# Altium schematic symbol library Components.SchLib: 31 symbols
Pins are listed as number, name and electrical type; pins without a type are passive.

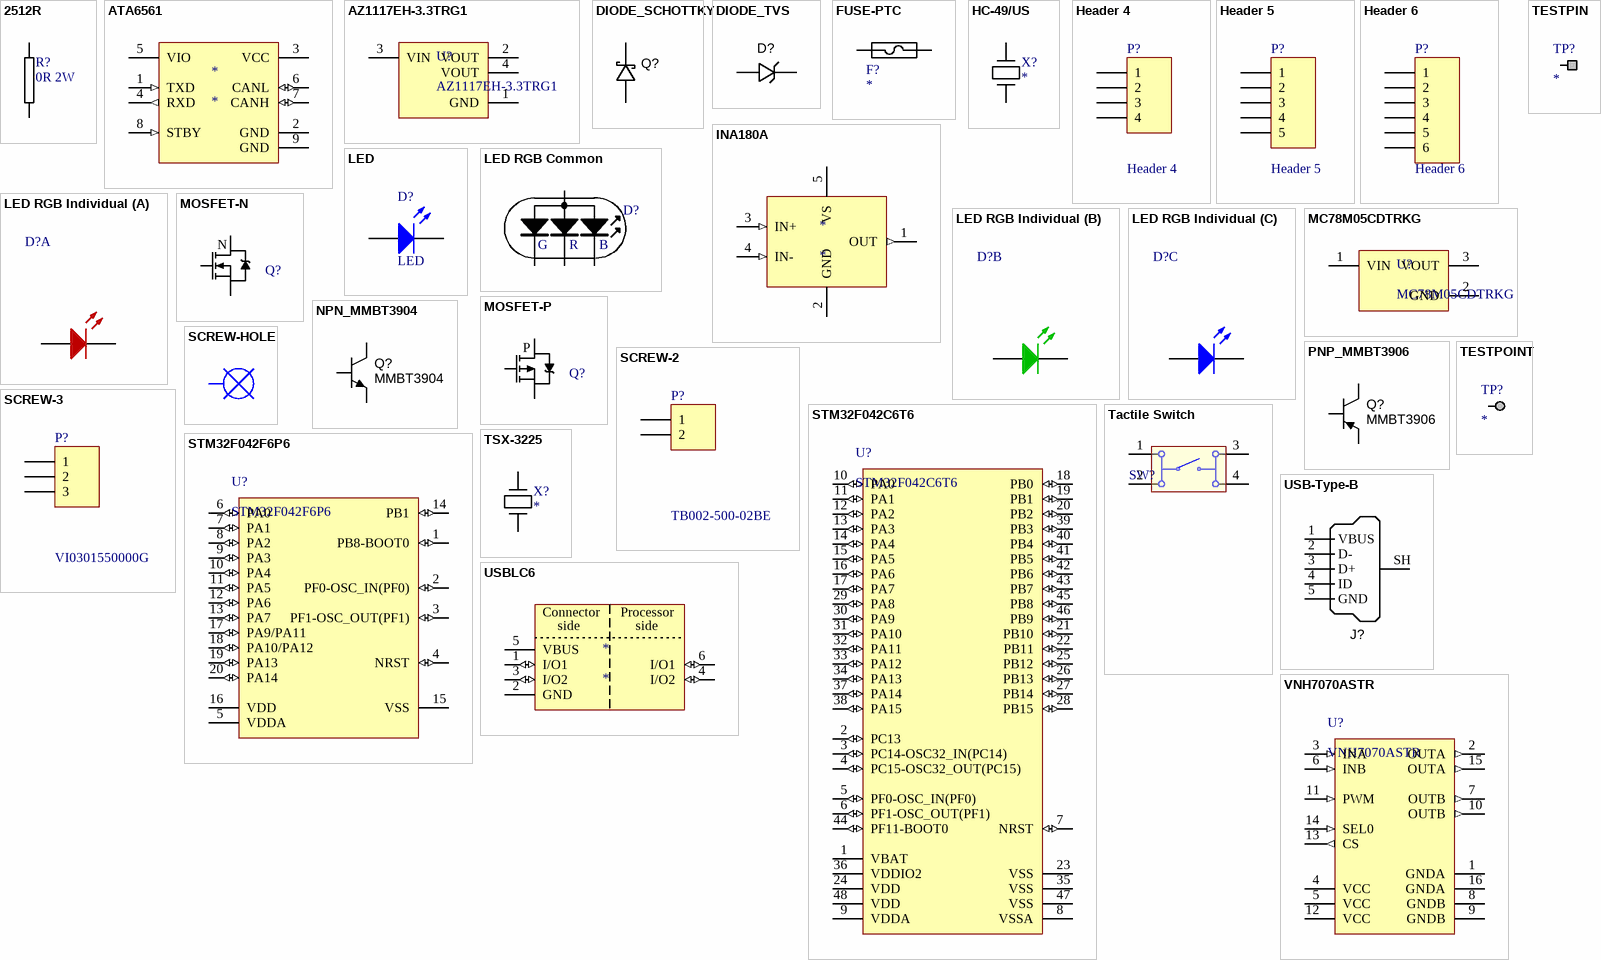
[diagram p0: symbols 2512R to VNH7070ASTR]

## 2512R
designator R?, comment 0R 2W
POWER RESISTOR 2512
footprint 2512R-GENERIC
pins: 1, 2

## ATA6561
designator *
High-Speed CAN Transceiver with Standby Mode  CAN FD Ready
footprint VDFN8 (8-Lead Very Thin Plastic Dual Flat, No Lead Package (Q8B) - 3x3 mm Body [VDFN] With  2.40x1.60 mm Exposed Pad and Stepped Wettable Flanks)
footprint SOIC8 (8-Pin Plastic Narrow Body Small Outline Integrated Circuit 1.27 mm Pitch, IPC Low Density)
pins: 1 TXD (in), 2 GND (power), 3 VCC (power), 4 RXD (out), 5 VIO (power), 6 CANL (io), 7 CANH (io), 8 STBY (in), 9 GND (power)

## AZ1117EH-3.3TRG1
designator U?
3.3V, 1A, LDO Regulator, 3-Pin SOT-223
footprint SOT-223 (SOT223, 4-Leads, Body 6.5x3.5mm, Pitch 2.3mm, Lead Span 7mm, IPC Medium Density)
pins: 1 GND (power), 2 VOUT (power), 3 VIN (power), 4 VOUT (power)

## DIODE_SCHOTTKY
designator Q?  (value not drawn)
Diode Schottky; Diode Type: Schottky
footprint DO-214AB (JEDEC DO214 variation AB. SMC)
footprint SOD323
footprint SOD123 (SOD-123; 2 Leads; Body 2.7 x 1.6 mm, (LxW))
footprint DO-214AC-SMA (JEDEC DO214 variation AC. SMA)
pins: A, K

## DIODE_TVS
designator D?  (value not drawn)
Diode SMD Transil
footprint SOD523F (SOD-523F; 2 Leads; Body 1.3 x 0.9 mm, (LxW))
footprint DO-214AA
pins: A, K

## FUSE-PTC
designator F?
PTC Resettable Fuse
footprint 1206C-GENERIC
pins: 1, 2

## HC-49/US
designator X?
HC-49/US
footprint HC49-US-SM (SMD Crystal HC49/US-SM package)
pins: 1, 2

## Header 4
designator P?
Header, 4-Pin
footprint HEADER-1X4
pins: 1, 2, 3, 4

## Header 5
designator P?
Header, 5-Pin
footprint HEADER-1X5
pins: 1, 2, 3, 4, 5

## Header 6
designator P?
Header, 6-Pin; LatestRevisionDate: 17-Jul-2002; LatestRevisionNote: Re-released for DXP Platform.; Publisher: Altium Limited
footprint HEADER-1X6
pins: 1, 2, 3, 4, 5, 6

## INA180A
designator *
INAx180 Low- and high-side voltage output, current-sense amplifiers
footprint SOT23-5 (SOT-23/SC-74A; 5 Leads; Body 3 x 3 mm, inc. leads (LxW max))
pins: 1 OUT (out), 2 GND (power), 3 IN+ (in), 4 IN- (in), 5 VS (power)

## LED
designator D?
Typical INFRARED GaAs LED; Published: 8-Jun-2000; LatestRevisionDate: 08-Jul-2005; LatestRevisionNote: Mech Layer 1 removed.; Publisher: Altium Limited
footprint LED-3MM
footprint LED-5MM
pins: A, K

## LED RGB Common
designator D?
LED RGB Common
pins: 1, 2, 3, 4 C
text: G; R; B

## LED RGB Individual
designator D?
LED RGB Individual; Digikey: https://www.digikey.com/product-detail/en/cree-inc/CLX6F-FKC-CNP1ST1E1BB7D3D3/CLX6F-FKC-CNP1ST1E1BB7D3D3CT-ND/6362814
footprint LED-3535-6 (SMD Full-color Top LED Diffused, body 3.7x3.5mm)
part A pins: AR A, KR K
part B pins: AG A, KG K
part C pins: AB A, KB K

## MC78M05CDTRKG
designator U?
5V, 500mA, LDO Regulator, 3-Pin DDPAK; ComponentLink1Description: Datasheet; ComponentLink1URL: http://ww1.microchip.com/downloads/en/DeviceDoc/22001c.pdf; ComponentLink2Description: Packaging Specification; ComponentLink2URL: http://www.microchip.com/stellent/groups/techpub_sg/documents/packagingspec/en012702.pdf
footprint DPAK
pins: 1 VIN (power), 2 GND (power), 3 VOUT (power)

## MOSFET-N
designator Q?
N-Channel MOSFET; Published: 8-Jun-2000; LatestRevisionDate: 17-Jul-2002; LatestRevisionNote: Re-released for DXP Platform.; PackageVersion: 1995/1996; PackageReference: E3; Publisher: Altium Limited
pins: D, G, S
text: N

## MOSFET-P
designator Q?
P-Channel MOSFET; Published: 8-Jun-2000; LatestRevisionDate: 17-Jul-2002; LatestRevisionNote: Re-released for DXP Platform.; PackageVersion: 1995/1996; PackageReference: E3; Publisher: Altium Limited
footprint SO8FL-DFN5x6 (DFN, 5-Leads, Body 5.9x4.9mm, Pitch 1.27mm)
footprint SOIC8_MOSFET (8-Pin Plastic Narrow Body Small Outline Integrated Circuit 1.27 mm Pitch, IPC Low Density)
pins: D, G, S
text: P

## NPN_MMBT3904
designator Q?  Manufacturer Part Number 1: MMBT3904  (hidden comment: *)
Transistor SMD NPN 40V 0.2A 250mW SOT-23; Manufacturer 1: Fairchild Semiconductor; Ratings: 40V; 200mA; 250mW; Material: Si; SCDType: source; Package / Case: SOT-23; Supplier 1: Digi-Key; Supplier Part Number 1: MMBT3904FSCT-ND; Transistor Type: NPN; Mounting Type: Surface Mount; Supplier 2: Digi-Key; Supplier Part Number 2: 568-1741-1-ND; Manufacturer 2: NXP Semiconductors; Manufacturer Part Number 2: PMBT3904,215; ComponentLink2URL: http://www.nxp.com/documents/data_sheet/PMBT3904.pdf; ComponentLink2Description: http://www.nxp.com/documents/data_sheet/PMBT3904.pdf; ComponentLink1URL: http://www.fairchildsemi.com/ds/MM/MMBT3904.pdf; ComponentLink1Description: http://www.fairchildsemi.com/ds/MM/MMBT3904.pdf
footprint SOT23-3 (SOT23, 3 pin)
pins: 1 B, 2 E, 3 C

## PNP_MMBT3906
designator Q?  Manufacturer Part Number 1: MMBT3906  (hidden comment: *)
Transistor SMD PNP 40V 0.2A 350mW SOT-23; Manufacturer 1: Fairchild Semiconductor; Ratings: 40V; 200mA; 350mW; Material: Si; Transistor Type: NPN; Vce Saturation (Max) @ Ib, Ic: 400mV @ 5mA, 50mA; DC Current Gain (hFE) (Min) @ Ic, Vce: 100 @ 10mA, 1V; Frequency - Transition: 250MHz; SCDType: spec; Package / Case: SOT-23; Mounting Type: Surface Mount; Supplier 1: Digi-Key; Supplier Part Number 1: MMBT3906FSCT-ND; Supplier Device Package: SOT-23; ComponentLink1URL: http://www.fairchildsemi.com/ds/2N/2N3906.pdf; ComponentLink1Description: http://www.fairchildsemi.com/ds/2N/2N3906.pdf
footprint SOT23-3 (SOT23, 3 pin)
pins: 1 B, 2 E, 3 C

## SCREW-2
designator P?, comment TB002-500-02BE
Screw terminal, 2-pin, 5mm pitch
footprint SCREW-2-5mm
pins: 1, 2

## SCREW-3
designator P?, comment VI0301550000G
Screw terminal, 3-pin, 5mm pitch
footprint SCREW-3-5mm
pins: 1, 2, 3

## SCREW-HOLE
designator H?  (value not drawn)
PCB Screw hole
footprint Screw-hole-3mm (M3 screw)
pins: 0

## STM32F042C6T6
designator U?
IC MCU 32BIT 32KB FLASH 48LQFP
footprint STM-LQFP48_N (QFP, 48-Leads, Body 7x7mm, Pitch 0.5mm, IPC Medium Density)
footprint STM-LQFP48_M (QFP, 48-Leads, Body 7x7mm, Pitch 0.5mm, IPC Low Density)
footprint STM-LQFP48_L (QFP, 48-Leads, Body 7x7mm, Pitch 0.5mm, IPC High Density)
pins: 1 VBAT (power) "Backup power supply", 2 PC13 (io) "PC13/WKUP2,RTC_TAMP1,RTC_TS,RTC_OUT", 3 PC14-OSC32_IN(PC14) (io) "PC14-OSC32_IN(PC14)/OSC32_IN", 4 PC15-OSC32_OUT(PC15) (io) "PC15-OSC32_OUT(PC15)/OSC32_OUT", 5 PF0-OSC_IN(PF0) (io) "PF0-OSC_IN(PF0)/CRS_SYNC,I2C1_SDA/OSC_IN", 6 PF1-OSC_OUT(PF1) (io) "PF1-OSC_OUT(PF1)/I2C1_SCL/OSC_OUT", 7 NRST (io) "Device reset input/internal reset output(active low)", 8 VSSA (power) "Analog ground", 9 VDDA (power) "Analog power supply", 10 PA0 (io) "PA0/USART2_CTS,TIM2_CH1_ETR,TSC_G1_IO1/RTC_TAMP2,WKUP1,ADC_IN0", 11 PA1 (io) "PA1/USART2_RTS,TIM2_CH2,TSC_G1_IO2,EVENTOUT/ADC_IN1", 12 PA2 (io) "PA2/USART2_TX,TIM2_CH3,TSC_G1_IO3/ADC_IN2,WKUP4", 13 PA3 (io) "PA3/USART2_RX,TIM2_CH4,TSC_G1_IO4/ADC_IN3", 14 PA4 (io) "PA4/SPI1_NSS,I2S1_WS,TIM14_CH1,TSC_G2_IO1,USART2_CK,USB_NOE/ADC_IN4", 15 PA5 (io) "PA5/SPI1_SCK,I2S1_CK,CEC,TIM2_CH1_ETR,TSC_G2_IO2/ADC_IN5", 16 PA6 (io) "PA6/SPI1_MISO,I2S1_MCK,TIM3_CH1,TIM1_BKIN,TIM16_CH1,TSC_G2_IO3,EVENTOUT/ADC_IN6", 17 PA7 (io) "PA7/SPI1_MOSI,I2S1_SD,TIM3_CH2,TIM14_CH1,TIM1_CH1N,TIM17_CH1,TSC_G2_IO4,EVENTOUT/ADC_IN7", 18 PB0 (io) "PB0/TIM3_CH3,TIM1_CH2N,TSC_G3_IO2,EVENTOUT/ADC_IN8", 19 PB1 (io) "PB1/TIM3_CH4,TIM14_CH1,TIM1_CH3N,TSC_G3_IO3/ADC_IN9", 20 PB2 (io) "PB2/TSC_G3_IO4", 21 PB10 (io) "PB10/SPI2_SCK,CEC,TSC_SYNC,TIM2_CH3,I2C1_SCL", 22 PB11 (io) "PB11/TIM2_CH4,EVENTOUT,I2C1_SDA", 23 VSS (power) "Ground", 24 VDD (power) "Digital power supply", 25 PB12 (io) "PB12/TIM1_BKIN,SPI2_NSS,EVENTOUT", 26 PB13 (io) "PB13/SPI2_SCK,TIM1_CH1N,I2C1_SCL", 27 PB14 (io) "PB14/SPI2_MISO,TIM1_CH2N,I2C1_SDA", 28 PB15 (io) "PB15/SPI2_MOSI,TIM1_CH3N/WKUP7,RTC_REFIN", 29 PA8 (io) "PA8/USART1_CK,TIM1_CH1,EVENTOUT,MCO,CRS_SYNC", 30 PA9 (io) "PA9/USART1_TX,TIM1_CH2,TSC_G4_IO1,I2C1_SCL", 31 PA10 (io) "PA10/USART1_RX,TIM1_CH3,TIM17_BKIN,TSC_G4_IO2,I2C1_SDA", 32 PA11 (io) "PA11/CAN_RX,USART1_CTS,TIM1_CH4,TSC_G4_IO3,EVENTOUT,I2C1_SCL/USB_DM", 33 PA12 (io) "PA12/CAN_TX,USART1_RTS,TIM1_ETR,TSC_G4_IO4,EVENTOUT,I2C1_SDA/USB_DP", 34 PA13 (io) "PA13/IR_OUT,SWDIO,USB_NOE", 35 VSS (power) "Ground", 36 VDDIO2 (power) "Digital power supply", 37 PA14 (io) "PA14/USART2_TX,SWCLK", 38 PA15 (io) "PA15/SPI1_NSS,I2S1_WS,USART2_RX,TIM2_CH1_ETR,EVENTOUT,USB_NOE", 39 PB3 (io) "PB3/SPI1_SCK,I2S1_CK,TIM2_CH2,TSC_G5_IO1,EVENTOUT", 40 PB4 (io) "PB4/SPI1_MISO,I2S1_MCK,TIM17_BKIN,TIM3_CH1,TSC_G5_IO2,EVENTOUT", 41 PB5 (io) "PB5/SPI1_MOSI,I2S1_SD,I2C1_SMBA,TIM16_BKIN,TIM3_CH2/WKUP6", 42 PB6 (io) "PB6/I2C1_SCL,USART1_TX,TIM16_CH1N,TSC_G5_IO3", 43 PB7 (io) "PB7/I2C1_SDA,USART1_RX,TIM17_CH1N,TSC_G5_IO4", 44 PF11-BOOT0 (io), 45 PB8 (io) "PB8/I2C1_SCL,CEC,TIM16_CH1,TSC_SYNC,CAN_RX", 46 PB9 (io) "PB9/SPI2_NSS,I2C1_SDA,IR_OUT,TIM17_CH1,EVENTOUT,CAN_TX", 47 VSS (power) "Ground", 48 VDD (power) "Digital power supply"

## STM32F042F6P6
designator U?
IC MCU 32BIT 32KB FLASH 20TSSOP; RAM Size: 6KB; Max Power Dissipation: 263mW; Interface: I2C, SPI, USB, CAN, USART, HDMI, IrDA, UART, LIN, I2S; Number of I/Os: 16; Number of Timers/Counters: 6; Frequency: 48MHz; Oscillator Type: Internal; Min Supply Voltage: 2V; Max Supply Voltage: 3.6V; Data Bus Width: 32b; Number of USB Channels: 1; Number of ADC Channels: 12; Number of I2C Channels: 2; Watchdog Timer: Yes; Peripherals: POR, PWM, WDT, DMA; Core Architecture: ARM; Case/Package: TSSOP; Mount: Surface Mount; RoHS: Yes; Number of Pins: 20; Weight: 0.006737oz; Min Operating Temperature: -40°C; Max Operating Temperature: 85°C; Packaging: Rail/Tube; Number of Programmable I/O: 16; Max Frequency: 48MHz; Number of SPI Channels: 1; Number of PWM Channels: 6; Memory Type: FLASH; Memory Size: 32KB; Package Quantity: 1480; Length: 6.6mm; Height: 1.05mm; Width: 4.5mm; Radiation Hardening: No; REACH SVHC: No SVHC; Lead Free: Lead Free
footprint STM-TSSOP20_N (SOP, 20-Leads, Body 6.6x4.5mm, Pitch 0.65mm, IPC Medium Density)
footprint STM-TSSOP20_M (SOP, 20-Leads, Body 6.6x4.5mm, Pitch 0.65mm, IPC Low Density)
footprint STM-TSSOP20_L (SOP, 20-Leads, Body 6.6x4.5mm, Pitch 0.65mm, IPC High Density)
pins: 1 PB8-BOOT0 (io) "PB8-BOOT0/I2C1_SCL,CEC,TIM16_CH1,TSC_SYNC,CAN_RX", 2 PF0-OSC_IN(PF0) (io) "PF0/CRS_SYNC,I2C1_SDA/OSC_IN", 3 PF1-OSC_OUT(PF1) (io) "PF1/I2C1_SCL/OSC_OUT", 4 NRST (io) "Device reset input/internal reset output(active low)", 5 VDDA (power) "Analog power supply", 6 PA0 (io) "PA0/USART2_CTS,TIM2_CH1_ETR,TSC_G1_IO1/RTC_TAMP2,WKUP1,ADC_IN0", 7 PA1 (io) "PA1/USART2_RTS,TIM2_CH2,TSC_G1_IO2,EVENTOUT/ADC_IN1", 8 PA2 (io) "PA2/USART2_TX,TIM2_CH3,TSC_G1_IO3/ADC_IN2,WKUP4", 9 PA3 (io) "PA3/USART2_RX,TIM2_CH4,TSC_G1_IO4/ADC_IN3", 10 PA4 (io) "PA4/SPI1_NSS,I2S1_WS,TIM14_CH1,TSC_G2_IO1,USART2_CK,USB_NOE/ADC_IN4", 11 PA5 (io) "PA5/SPI1_SCK,I2S1_CK,CEC,TIM2_CH1_ETR,TSC_G2_IO2/ADC_IN5", 12 PA6 (io) "PA6/SPI1_MISO,I2S1_MCK,TIM3_CH1,TIM1_BKIN,TIM16_CH1,TSC_G2_IO3,EVENTOUT/ADC_IN6", 13 PA7 (io) "PA7/SPI1_MOSI,I2S1_SD,TIM3_CH2,TIM14_CH1,TIM1_CH1N,TIM17_CH1,TSC_G2_IO4,EVENTOUT/ADC_IN7", 14 PB1 (io) "PB1/TIM3_CH4,TIM14_CH1,TIM1_CH3N,TSC_G3_IO3/ADC_IN9", 15 VSS (power) "Ground", 16 VDD (power) "Digital power supply", 17 PA9/PA11 (io) "PA9/USART1_TX,TIM1_CH2,TSC_G4_IO1,I2C1_SCL/PA11/CAN_RX,USART1_CTS,TIM1_CH4,TSC_G4_IO3,EVENTOUT,I2C1_SCL/USB_DM", 18 PA10/PA12 (io) "PA10/USART1_RX,TIM1_CH3,TIM17_BKIN,TSC_G4_IO2,I2C1_SDA/PA12/CAN_TX,USART1_RTS,TIM1_ETR,TSC_G4_IO4,EVENTOUT,I2C1_SDA/USB_DP", 19 PA13 (io) "PA13/IR_OUT,SWDIO,USB_NOE", 20 PA14 (io) "PA14/USART2_TX,SWCLK"

## Tactile Switch
designator SW?
Tactile Switch
footprint TACT-SMD-6x6 (6*6mm vertical type, SMD, height 4.3mm, salmon actuator, 360gf, T&R)
footprint TACT-TH-6x6 (6*6mm vertical type, THT, height 4.3mm, white actuator, 260gf, Bulk)
pins: 1, 2, 3, 4

## TESTPIN
designator TP?
TESTPIN SINGLE PIN HEADER; Manufacturer 1: Sharon Long Industries; Manufacturer Part Number 1: Cut-it-yourself; Reel: TH; Description: Single pin header; Supplier 1: Sharon Long Industries; Supplier 1 Part number: Cut-It-Yourself
footprint TESTPIN
pins: 1

## TESTPOINT
designator TP?
TESTPOINT SCOPE GRABBER; Manufacturer Part Number: 5010; Manufacturer: Keystone Electronics; Description: TEST POINT PC MULTI PURPOSE RED; Reel: TH; Supplier 1: Digi-Key; Supplier Part Number 1: 5010K-ND
footprint TESTPOINT
footprint TESTPAD
footprint TESTPIN_SMALL
pins: 1

## TSX-3225
designator X?
TSX-3225
footprint TSX-3225
pins: 1, 3

## USB-Type-B
designator J?, comment USB Type B  (value not drawn)
Connector SMD-THD USB Type B middle mount; Manufacturer 1: FCI; Manufacturer Part Number 1: 10103594-0001LF; SCDType: undef; Package / Case: SMD/THD mid-mount; Supplier 1: Digi-Key; Supplier Part Number 1: 609-4050-1-ND
footprint USB-MICRO-B (FCI 10103594-0001LF)
footprint USB-MINI-B (EDAC_690-005-299-043_0)
pins: 1 VBUS, 2 D-, 3 D+, 4 ID, 5 GND, SH Shell

## USBLC6
designator *
Very low capacitance ESD protection
footprint SOT23-6
pins: 1 I/O1 (io), 2 GND (power), 3 I/O2 (io), 4 I/O2 (io), 5 VBUS (power), 6 I/O1 (io)
text: Connector; Processor; side

## VNH7070ASTR
designator U?
SO 16 .15 TO JEDEC MS-012; Logic Function: AND; Interface: PWM; Output Current: 15A; Mount: Surface Mount; Case/Package: SOIC; Number of Pins: 16; Min Operating Temperature: -40°C; Max Operating Temperature: 150°C; Packaging: Tape and Reel; Lead Free: Lead Free
footprint STM-SO-16N_L (SOIC, 16-Leads, Body 10x4mm, Pitch 1.27mm, IPC High Density)
footprint STM-SO-16N_M (SOIC, 16-Leads, Body 10x4mm, Pitch 1.27mm, IPC Low Density)
footprint STM-SO-16N_N (SOIC, 16-Leads, Body 10x4mm, Pitch 1.27mm, IPC Medium Density)
pins: 1 GNDA (power) "Source of low-side switch A", 2 OUTA (out) "Source of high-side switch A / drain of low-side switch A", 3 INA (in) "Clockwise input", 4 VCC (power) "Power supply voltage", 5 VCC (power) "Power supply voltage", 6 INB (in) "Counter clockwise input", 7 OUTB (out) "Source of high-side switch B / drain of low-side switch B", 8 GNDB (power) "Source of low-side switch B", 9 GNDB (power) "Source of low-side switch B", 10 OUTB (out) "Source of high-side switch B / drain of low-side switch B", 11 PWM (in) "Voltage controlled input pin with hysteresis, CMOS compatible. Gates of low-side FETS get modulated by the PWM signal during their on phase allowing speed control of the motor", 12 VCC (power) "Power supply voltage", 13 CS (out) "Multiplexed analog sense output pin; it delivers a current proportional to the motor current according to the leg selection.", 14 SEL0 (in) "Active high compatible with 3 V and 5 V CMOS outputs pin; in combination with INA, INB, it addresses the CurrentSense information delivered to the micro according to the operative truth table.", 15 OUTA (out) "Source of high-side switch A / drain of low-side switch A", 16 GNDA (power) "Source of low-side switch A"